# Altium footprint library IntegratedCircuites.PcbLib: 74 footprints (part 4 of 5)
Each footprint in its own frame and in the unit in brackets; x right, y up, seen from the top. Pads: shape width x height; smd on the part's side, far side on the other; paste and mask are expansions set on the pad; w line width, h text height; cw(c..) or ccw(c..) is an arc to the next point about the centre after c.
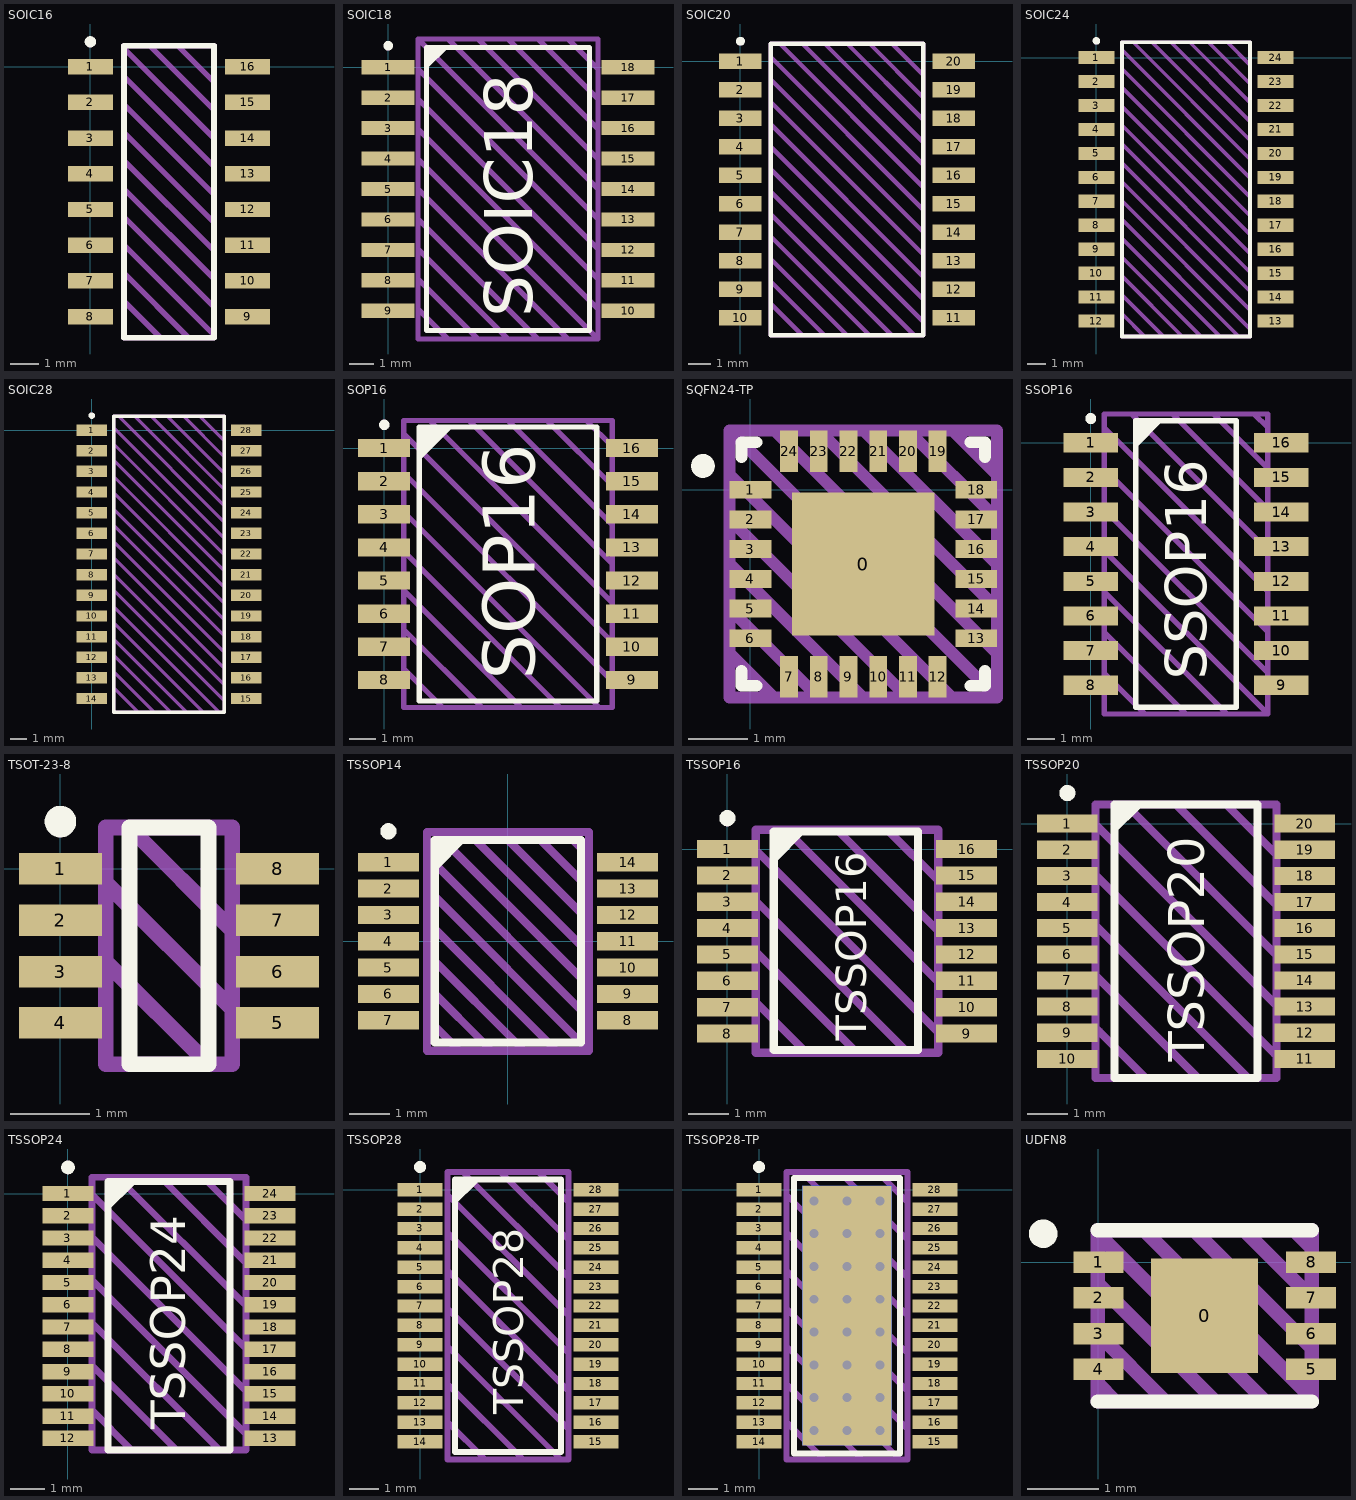
[diagram p3: the footprints below, top view; thin cyan lines are the x and y axes]

## SOIC16 [mm] "Small Outline Integrated Circuit"
pads (16):
  rect 1.6x0.55 smd: 1(0,0) 2(0,-1.27) 3(0,-2.54) 4(0,-3.81) 5(0,-5.08) 6(0,-6.35) 7(0,-7.62) 8(0,-8.89) 9(5.6,-8.89) 10(5.6,-7.62) 11(5.6,-6.35) 12(5.6,-5.08) 13(5.6,-3.81) 14(5.6,-2.54) 15(5.6,-1.27) 16(5.6,0)
Top Overlay:
  circle w0.2: c0,0.889 r0.1
  lines w0.2: 1.2,-9.645 1.2,0.755 4.4,0.755 4.4,-9.645 1.2,-9.645
Top Draw:
  lines w0.2: 1.2,-8.345 2.5,-9.645 ; 1.2,-7.345 3.5,-9.645 ; 1.2,-6.345 4.4,-9.545 ; 1.2,-5.345 4.4,-8.545 ; 1.2,-4.345 4.4,-7.545 ; 1.2,-3.345 4.4,-6.545 ; 1.2,-2.345 4.4,-5.545 ; 1.2,-1.345 4.4,-4.545 ; 1.2,-0.345 4.4,-3.545 ; 1.2,0.655 4.4,-2.545 ; 2.1,0.755 4.4,-1.545 ; 3.1,0.755 4.4,-0.545 ; 1.2,-9.645 1.2,0.755 4.4,0.755 4.4,-9.645 1.2,-9.645
Top Info:
  text "'.Comment'" at -1.449,-11.128 h1
3D body "SOIC127P600X150-16N000000000.step": height 1.5, standoff 0, extent -0.2,-9.645 5.8,0.755

## SOIC18 [mm] "Small Outline Integrated Circuit"
pads (18):
  rect 2.2x0.6 smd: 1(0,0) 2(0,-1.27) 3(0,-2.54) 4(0,-3.81) 5(0,-5.08) 6(0,-6.35) 7(0,-7.62) 8(0,-8.89) 9(0,-10.16) 10(10,-10.16) 11(10,-8.89) 12(10,-7.62) 13(10,-6.35) 14(10,-5.08) 15(10,-3.81) 16(10,-2.54) 17(10,-1.27) 18(10,0)
Top Overlay:
  circle w0.2: c0.008,0.889 r0.1
  region: 1.604,0.856 1.604,-0.094 2.554,0.856
  lines w0.2: 1.6,-10.98 8.4,-10.98 8.4,0.82 1.6,0.82 1.6,-10.98
  text "SOIC18" at 6.016,-10.414 h2
Top Draw:
  lines w0.2: 1.25,-10.08 2.5,-11.33 ; 1.25,-8.83 3.75,-11.33 ; 1.25,-7.58 5,-11.33 ; 1.25,-6.33 6.25,-11.33 ; 1.25,-5.08 7.5,-11.33 ; 1.25,-3.83 8.75,-11.33 ; 1.25,-2.58 8.75,-10.08 8.75,-8.83 1.25,-1.33 ; 1.25,-0.08 8.75,-7.58 ; 2.25,1.17 2.5,1.17 8.75,-5.08 ; 3.75,1.17 8.75,-3.83 8.75,-4.58 ; 4.75,1.17 5,1.17 8.75,-2.58 ; 6.25,1.17 8.75,-1.33 8.75,-2.33 ; 7.5,1.17 8.75,-0.08 ; 8.75,-6.58 8.75,-6.33 1.25,1.17 ; 1.25,1.17 8.75,1.17 8.75,-11.33 ; 1.25,1.17 1.25,-11.33 8.75,-11.33
Top Info:
  text "'.Comment'" at 0.047,-12.7 h1
3D body "SOIC18.step": height 2.5, standoff 0, extent -0.208,-10.98 10.208,0.82

## SOIC20 [mm] "Small Outline Integrated Circuit"
pads (20):
  rect 1.9x0.7 smd: 1(0,0) 2(0,-1.27) 3(0,-2.54) 4(0,-3.81) 5(0,-5.08) 6(0,-6.35) 7(0,-7.62) 8(0,-8.89) 9(0,-10.16) 10(0,-11.43) 11(9.5,-11.43) 12(9.5,-10.16) 13(9.5,-8.89) 14(9.5,-7.62) 15(9.5,-6.35) 16(9.5,-5.08) 17(9.5,-3.81) 18(9.5,-2.54) 19(9.5,-1.27) 20(9.5,0)
Top Overlay:
  circle w0.2: c0,0.889 r0.1
  lines w0.2: 1.35,-12.215 1.35,0.785 8.15,0.785 8.15,-12.215 1.35,-12.215
Top Draw:
  lines w0.2: 1.35,-10.815 2.75,-12.215 ; 1.35,-9.815 3.75,-12.215 ; 1.35,-8.815 4.75,-12.215 ; 1.35,-7.815 5.75,-12.215 ; 1.35,-6.815 6.75,-12.215 ; 1.35,-5.815 7.75,-12.215 ; 1.35,-4.815 8.15,-11.615 ; 1.35,-3.815 8.15,-10.615 ; 1.35,-2.815 8.15,-9.615 ; 1.35,-1.815 8.15,-8.615 ; 1.35,-0.815 8.15,-7.615 ; 1.35,0.185 8.15,-6.615 ; 1.75,0.785 8.15,-5.615 ; 2.75,0.785 8.15,-4.615 ; 3.75,0.785 8.15,-3.615 ; 4.75,0.785 8.15,-2.615 ; 5.75,0.785 8.15,-1.615 ; 6.75,0.785 8.15,-0.615 ; 1.35,-12.215 8.15,-12.215 8.15,0.785 1.35,0.785 1.35,-12.215
Top Info:
  text "'.Comment'" at 0.501,-13.698 h1
3D body "SOIC127P1030X225-20N.step": height 2.25, standoff 0, extent -0.4,-12.215 9.9,0.785

## SOIC24 [mm] "Small Outline Integrated Circuit"
pads (24):
  rect 1.9x0.7 smd: 1(0,0) 2(0,-1.27) 3(0,-2.54) 4(0,-3.81) 5(0,-5.08) 6(0,-6.35) 7(0,-7.62) 8(0,-8.89) 9(0,-10.16) 10(0,-11.43) 11(0,-12.7) 12(0,-13.97) 13(9.5,-13.97) 14(9.5,-12.7) 15(9.5,-11.43) 16(9.5,-10.16) 17(9.5,-8.89) 18(9.5,-7.62) 19(9.5,-6.35) 20(9.5,-5.08) 21(9.5,-3.81) 22(9.5,-2.54) 23(9.5,-1.27) 24(9.5,0)
Top Overlay:
  circle w0.2: c0,0.889 r0.1
  lines w0.2: 1.35,-14.785 8.15,-14.785 8.15,0.815 1.35,0.815 1.35,-14.785
Top Draw:
  lines w0.2: 1.35,-13.585 2.55,-14.785 ; 1.35,-12.585 3.55,-14.785 ; 1.35,-11.585 4.55,-14.785 ; 1.35,-10.585 5.55,-14.785 ; 1.35,-9.585 6.55,-14.785 ; 1.35,-8.585 7.55,-14.785 ; 1.35,-7.585 8.15,-14.385 ; 1.35,-6.585 8.15,-13.385 ; 1.35,-5.585 8.15,-12.385 ; 1.35,-4.585 8.15,-11.385 ; 1.35,-3.585 8.15,-10.385 ; 1.35,-2.585 8.15,-9.385 ; 1.35,-1.585 8.15,-8.385 ; 1.35,-0.585 8.15,-7.385 ; 1.35,0.415 8.15,-6.385 ; 1.95,0.815 8.15,-5.385 ; 2.95,0.815 8.15,-4.385 ; 3.95,0.815 8.15,-3.385 ; 4.95,0.815 8.15,-2.385 ; 5.95,0.815 8.15,-1.385 ; 6.95,0.815 8.15,-0.385 ; 1.35,-14.785 1.35,0.815 8.15,0.815 8.15,-14.785 1.35,-14.785
Top Info:
  text "'.Comment'" at 0.501,-16.268 h1
3D body "SOIC127P1030X225-24N.step": height 2.25, standoff 0, extent -0.4,-14.785 9.9,0.815

## SOIC28 [mm] "Small Outline Integrated Circuit"
pads (28):
  rect 1.9x0.7 smd: 1(0,0) 2(0,-1.27) 3(0,-2.54) 4(0,-3.81) 5(0,-5.08) 6(0,-6.35) 7(0,-7.62) 8(0,-8.89) 9(0,-10.16) 10(0,-11.43) 11(0,-12.7) 12(0,-13.97) 13(0,-15.24) 14(0,-16.51) 15(9.5,-16.51) 16(9.5,-15.24) 17(9.5,-13.97) 18(9.5,-12.7) 19(9.5,-11.43) 20(9.5,-10.16) 21(9.5,-8.89) 22(9.5,-7.62) 23(9.5,-6.35) 24(9.5,-5.08) 25(9.5,-3.81) 26(9.5,-2.54) 27(9.5,-1.27) 28(9.5,0)
Top Overlay:
  circle w0.2: c0,0.889 r0.1
  lines w0.2: 1.35,-17.355 8.15,-17.355 8.15,0.845 1.35,0.845 1.35,-17.355
Top Draw:
  lines w0.2: 1.35,-15.855 2.85,-17.355 ; 1.35,-14.855 3.85,-17.355 ; 1.35,-13.855 4.85,-17.355 ; 1.35,-12.855 5.85,-17.355 ; 1.35,-11.855 6.85,-17.355 ; 1.35,-10.855 7.85,-17.355 ; 1.35,-9.855 8.15,-16.655 ; 1.35,-8.855 8.15,-15.655 ; 1.35,-7.855 8.15,-14.655 ; 1.35,-6.855 8.15,-13.655 ; 1.35,-5.855 8.15,-12.655 ; 1.35,-4.855 8.15,-11.655 ; 1.35,-3.855 8.15,-10.655 ; 1.35,-2.855 8.15,-9.655 ; 1.35,-1.855 8.15,-8.655 ; 1.35,-0.855 8.15,-7.655 ; 1.35,0.145 8.15,-6.655 ; 1.65,0.845 8.15,-5.655 ; 2.65,0.845 8.15,-4.655 ; 3.65,0.845 8.15,-3.655 ; 4.65,0.845 8.15,-2.655 ; 5.65,0.845 8.15,-1.655 ; 6.65,0.845 8.15,-0.655 ; 1.35,-17.355 8.15,-17.355 8.15,0.845 1.35,0.845 1.35,-17.355
Top Info:
  text "'.Comment'" at 0.501,-18.838 h1
3D body "SOIC127P1030X225-28N.step": height 2.25, standoff 0, extent -0.4,-17.355 9.9,0.845

## SOP16 [mm]
height 2.5
pads (16):
  rect 2x0.7 smd: 1(0,0) 2(0,-1.27) 3(0,-2.54) 4(0,-3.81) 5(0,-5.08) 6(0,-6.35) 7(0,-7.62) 8(0,-8.89) 9(9.5,-8.89) 10(9.5,-7.62) 11(9.5,-6.35) 12(9.5,-5.08) 13(9.5,-3.81) 14(9.5,-2.54) 15(9.5,-1.27) 16(9.5,0)
Top Overlay:
  circle w0.2: c0.008,0.889 r0.1
  region: 1.35,0.805 2.634,0.805 1.35,-0.479
  lines w0.2: 1.35,-9.695 8.15,-9.695 8.15,0.805 1.35,0.805 1.35,-9.695
  text "SOP16" at 5.766,-8.89 h2
Top Draw:
  lines w0.2: 0.75,-8.445 2.25,-9.945 2.75,-9.945 ; 0.75,-6.945 3.75,-9.945 4.75,-9.945 ; 0.75,-5.445 5.25,-9.945 6.75,-9.945 ; 0.75,-3.945 6.75,-9.945 ; 0.75,-2.445 8.25,-9.945 8.75,-9.945 ; 0.75,-0.945 8.75,-8.945 ; 0.75,0.555 8.75,-7.445 8.75,-7.945 ; 1.75,1.055 8.75,-5.945 8.75,-6.945 ; 2.25,1.055 3.25,1.055 8.75,-4.445 ; 4.75,1.055 8.75,-2.945 ; 6.25,1.055 8.75,-1.445 8.75,-2.445 ; 7.25,-9.945 6.75,-9.945 ; 7.75,1.055 8.75,0.055 8.75,-0.445 ; 8.75,-9.945 0.75,-9.945 0.75,1.055 8.75,1.055 8.75,-9.945 ; 8.75,-8.945 8.75,-8.945
Top Info:
  text "'.Comment'" at -0.584,-11.557 h1.25
3D body "SOP16.step": height 2.5, standoff 0, extent -0.425,-9.695 9.925,0.805

## SQFN24-TP [mm]
height 1
pads (25):
  rect 2.4x2.4 smd: 0(1.9,-1.25)
  rect 0.7x0.3 smd: 1(0,0) 2(0,-0.5) 3(0,-1) 4(0,-1.5) 5(0,-2) 6(0,-2.5) 13(3.8,-2.5) 14(3.8,-2) 15(3.8,-1.5) 16(3.8,-1) 17(3.8,-0.5) 18(3.8,0)
  rect 0.3x0.7 smd: 7(0.65,-3.15) 8(1.15,-3.15) 9(1.65,-3.15) 10(2.15,-3.15) 11(2.65,-3.15) 12(3.15,-3.15) 19(3.15,0.65) 20(2.65,0.65) 21(2.15,0.65) 22(1.65,0.65) 23(1.15,0.65) 24(0.65,0.65)
Top Overlay:
  circle w0.2: c-0.8,0.4 r0.1
  lines w0.2: -0.15,-3.05 -0.15,-3.3 0.1,-3.3 ; -0.15,0.55 -0.15,0.8 0.1,0.8 ; 3.7,-3.3 3.95,-3.3 3.95,-3.05 ; 3.7,0.8 3.95,0.8 3.95,0.55
Top Draw:
  lines w0.2: -0.35,-2.75 0.4,-3.5 ; -0.35,-2 1.15,-3.5 ; -0.35,-1.25 1.9,-3.5 ; -0.35,-0.5 2.65,-3.5 ; -0.35,0.25 3.4,-3.5 ; 0.4,1 4.15,-2.75 ; 1.15,1 4.15,-2 ; 1.9,1 4.15,-1.25 ; 2.65,1 4.15,-0.5 ; 3.4,1 4.15,0.25 ; -0.35,1 4.15,1 4.15,-3.5 ; -0.35,1 -0.35,-3.5 4.15,-3.5 ; -0.35,1 4.15,-3.5
Top Info:
  text "'.Comment'" at -1.286,-4.687 h0.75
3D body "PQFN127P600-8N.step": height 1, standoff 0, extent -0.15,-3.3 3.95,0.8

## SSOP16 [mm]
height 2
pads (16):
  rect 2x0.7 smd: 1(0,0) 2(0,-1.27) 3(0,-2.54) 4(0,-3.81) 5(0,-5.08) 6(0,-6.35) 7(0,-7.62) 8(0,-8.89) 9(7,-8.89) 10(7,-7.62) 11(7,-6.35) 12(7,-5.08) 13(7,-3.81) 14(7,-2.54) 15(7,-1.27) 16(7,0)
Top Overlay:
  circle w0.2: c0.008,0.889 r0.1
  region: 1.65,0.805 1.65,-0.199 2.654,0.805
  lines w0.2: 1.65,-9.695 1.65,0.805 5.35,0.805 5.35,-9.695 1.65,-9.695
  text "SSOP16" at 4.25,-8.695 h1.5
Top Draw:
  lines w0.2: 0.5,-8.445 2,-9.945 2.5,-9.945 ; 0.5,-6.945 3.5,-9.945 4.5,-9.945 ; 0.5,-5.445 5,-9.945 6.5,-9.945 ; 0.5,-3.945 6.5,-9.945 ; 0.5,-2.445 6.5,-8.445 6.5,-9.945 ; 0.5,-0.945 6.5,-6.945 ; 0.5,0.555 6.5,-5.445 ; 1.5,1.055 6.5,-3.945 ; 2,1.055 3,1.055 6.5,-2.445 ; 4.5,1.055 6.5,-0.945 ; 6,1.055 6.5,0.555 ; 6.5,-9.945 0.5,-9.945 0.5,1.055 6.5,1.055 6.5,-9.945 ; 6.5,-6.945 6.5,-6.945
Top Info:
  text "'.Comment'" at -1.276,-11.378 h1
3D body "SSOP16.step": height 2, standoff 0, extent -0.05,-9.695 7.05,0.805

## TSOT-23-8 [mm]
height 1.1
pads (8):
  rect 1.05x0.4 smd: 1(0,0) 2(0,-0.65) 3(0,-1.3) 4(0,-1.95) 5(2.75,-1.95) 6(2.75,-1.3) 7(2.75,-0.65) 8(2.75,0)
Top Overlay:
  circle w0.2: c0,0.6 r0.1
  lines w0.2: 0.875,-2.475 1.875,-2.475 1.875,0.525 0.875,0.525 0.875,-2.475
Top Draw:
  lines w0.2: 0.575,-1.175 1.875,-2.475 ; 0.575,-0.175 2.175,-1.775 ; 0.875,0.525 2.175,-0.775 ; 0.575,-2.475 2.175,-2.475 2.175,0.525 0.575,0.525 0.575,-2.475
Top Info:
  text "'.Comment'" at -1.041,-3.267 h0.5
3D body "TSOP65P280X110-8N.step": height 1.1, standoff 0, extent -0.037,-2.475 2.788,0.525

## TSSOP14 [mm]
height 1.2
pads (14):
  rect 1.5x0.45 smd: 1(-2.95,1.95) 2(-2.95,1.3) 3(-2.95,0.65) 4(-2.95,0) 5(-2.95,-0.65) 6(-2.95,-1.3) 7(-2.95,-1.95) 8(2.95,-1.95) 9(2.95,-1.3) 10(2.95,-0.65) 11(2.95,0) 12(2.95,0.65) 13(2.95,1.3) 14(2.95,1.95)
Top Overlay:
  circle w0.2: c-2.95,2.712 r0.1
  region: -1.807,2.5 -1.807,1.706 -1.013,2.5
  lines w0.2: -1.807,-2.5 1.8,-2.5 1.8,2.5 -1.807,2.5 -1.807,-2.5
Top Draw:
  lines w0.2: -2,-1.9 -1.2,-2.7 ; -2,-1.1 -0.4,-2.7 ; -2,-0.3 0.4,-2.7 ; -2,0.5 1.2,-2.7 ; -2,1.3 2,-2.7 ; -2,2.1 2,-1.9 ; -1.8,2.7 2,-1.1 ; -1,2.7 2,-0.3 ; -0.2,2.7 2,0.5 ; 0.6,2.7 2,1.3 ; 1.4,2.7 2,2.1 ; 2,-2.7 2,2.7 -2,2.7 -2,-2.7 2,-2.7
Top Info:
  text "'.Comment'" at -3.204,-3.638 h0.75
3D body "TSOP65P640X120-14N.step": height 1.2, standoff 0, extent -3.2,-2.7 3.2,2.7

## TSSOP16 [mm]
height 1.2
pads (16):
  rect 1.5x0.45 smd: 1(0,0) 2(0,-0.65) 3(0,-1.3) 4(0,-1.95) 5(0,-2.6) 6(0,-3.25) 7(0,-3.9) 8(0,-4.55) 9(5.9,-4.55) 10(5.9,-3.9) 11(5.9,-3.25) 12(5.9,-2.6) 13(5.9,-1.95) 14(5.9,-1.3) 15(5.9,-0.65) 16(5.9,0)
Top Overlay:
  circle w0.2: c0,0.762 r0.1
  region: 1.15,0.435 1.15,-0.359 1.944,0.435
  lines w0.2: 1.143,-4.953 1.143,0.435 4.699,0.435 4.699,-4.953 1.143,-4.953
  text "TSSOP16" at 3.423,-4.723 h0.75
Top Draw:
  lines w0.2: 0.7,-3.775 1.95,-5.025 ; 0.7,-2.525 3.2,-5.025 3.45,-5.025 ; 0.7,-1.275 4.45,-5.025 ; 0.7,-0.025 5.2,-4.525 ; 1.45,0.475 5.2,-3.275 5.2,-4.525 ; 2.7,0.475 5.2,-2.025 5.2,-3.525 ; 3.991,0.435 5.2,-0.775 5.2,-1.275 ; 5.2,-5.025 5.2,-4.525 ; 5.2,-5.025 5.2,0.475 0.7,0.475 0.7,-5.025 5.2,-5.025
Top Info:
  text "'.Comment'" at -0.254,-6.096 h0.75
3D body "TSSOP16.step": height 1.2, standoff 0, extent -0.3,-4.825 6.2,0.275

## TSSOP20 [mm]
height 1.3
pads (20):
  rect 1.5x0.45 smd: 1(0,0) 2(0,-0.65) 3(0,-1.3) 4(0,-1.95) 5(0,-2.6) 6(0,-3.25) 7(0,-3.9) 8(0,-4.55) 9(0,-5.2) 10(0,-5.85) 11(5.9,-5.85) 12(5.9,-5.2) 13(5.9,-4.55) 14(5.9,-3.9) 15(5.9,-3.25) 16(5.9,-2.6) 17(5.9,-1.95) 18(5.9,-1.3) 19(5.9,-0.65) 20(5.9,0)
Top Overlay:
  circle w0.2: c0,0.762 r0.1
  region: 1.1,0.475 1.1,-0.319 1.894,0.475
  lines w0.2: 1.172,-6.325 1.172,0.475 4.728,0.475 4.728,-6.325 1.172,-6.325
  text "TSSOP20" at 3.4,-5.924 h0.9
Top Draw:
  lines w0.2: 0.7,-4.925 0.7,-5.075 0.8,-5.175 1.95,-6.325 ; 0.7,-3.775 3.25,-6.325 3.45,-6.325 ; 0.7,-2.525 4.475,-6.3 ; 0.7,-1.275 5.15,-5.725 ; 0.7,-0.025 5.2,-4.525 ; 1.45,0.475 5.2,-3.275 5.2,-4.525 ; 2.7,0.475 5.2,-2.025 5.2,-3.525 ; 3.95,0.475 5.2,-0.775 5.2,-1.275 ; 5.2,-5.025 5.2,0.475 0.7,0.475 0.7,-6.325 5.2,-6.325 5.2,-4.525
Top Info:
  text "'.Comment'" at -0.186,-7.537 h0.75
3D body "TSOP65P640X120-16N.step": height 1.2, standoff 0, extent -0.275,-4.775 6.125,0.225
3D body "TSOP65P640X120-16N.step": height 1.2, standoff 0, extent -0.275,-6.075 6.125,-1.075

## TSSOP24 [mm]
height 1.2
pads (24):
  rect 1.5x0.45 smd: 1(0,0) 2(0,-0.65) 3(0,-1.3) 4(0,-1.95) 5(0,-2.6) 6(0,-3.25) 7(0,-3.9) 8(0,-4.55) 9(0,-5.2) 10(0,-5.85) 11(0,-6.5) 12(0,-7.15) 13(5.9,-7.15) 14(5.9,-6.5) 15(5.9,-5.85) 16(5.9,-5.2) 17(5.9,-4.55) 18(5.9,-3.9) 19(5.9,-3.25) 20(5.9,-2.6) 21(5.9,-1.95) 22(5.9,-1.3) 23(5.9,-0.65) 24(5.9,0)
Top Overlay:
  circle w0.2: c0,0.762 r0.1
  region: 1.15,0.275 1.15,-0.519 1.944,0.275
  lines w0.2: 1.172,-7.493 1.172,0.347 4.728,0.347 4.728,-7.493 1.172,-7.493
  text "TSSOP24" at 3.421,-6.888 h1
Top Draw:
  lines w0.2: 0.7,-6.325 1.861,-7.486 ; 0.7,-5.075 0.7,-4.925 ; 0.7,-5.025 3.168,-7.493 3.302,-7.493 ; 0.7,-3.775 4.419,-7.494 ; 0.7,-2.525 5.15,-6.975 ; 0.7,-1.275 5.15,-5.725 ; 0.7,-0.025 5.2,-4.525 ; 1.45,0.475 5.2,-3.275 5.2,-4.525 ; 2.7,0.475 5.2,-2.025 5.2,-3.525 ; 3.95,0.475 5.2,-0.775 5.2,-1.275 ; 5.2,-5.025 5.2,0.475 0.7,0.475 0.7,-7.493 5.2,-7.493 5.2,-4.525
Top Info:
  text "'.Comment'" at -0.186,-8.637 h0.75
3D body "TSOP65P640X120-24N.step": height 1.2, standoff 0, extent -0.25,-7.525 6.15,0.375

## TSSOP28 [mm]
height 1.2
pads (28):
  rect 1.5x0.45 smd: 1(0,0) 2(0,-0.65) 3(0,-1.3) 4(0,-1.95) 5(0,-2.6) 6(0,-3.25) 7(0,-3.9) 8(0,-4.55) 9(0,-5.2) 10(0,-5.85) 11(0,-6.5) 12(0,-7.15) 13(0,-7.8) 14(0,-8.45) 15(5.9,-8.45) 16(5.9,-7.8) 17(5.9,-7.15) 18(5.9,-6.5) 19(5.9,-5.85) 20(5.9,-5.2) 21(5.9,-4.55) 22(5.9,-3.9) 23(5.9,-3.25) 24(5.9,-2.6) 25(5.9,-1.95) 26(5.9,-1.3) 27(5.9,-0.65) 28(5.9,0)
Top Overlay:
  circle w0.2: c0,0.762 r0.1
  region: 1.15,0.275 1.15,-0.519 1.944,0.275
  lines w0.2: 1.172,-8.797 1.172,0.347 4.728,0.347 4.728,-8.797 1.172,-8.797
  text "TSSOP28" at 3.458,-7.527 h1
Top Draw:
  lines w0.2: 0.918,-7.781 2.188,-9.051 ; 0.918,-6.511 3.458,-9.051 ; 0.918,-5.241 4.728,-9.051 ; 0.918,-3.971 4.982,-8.035 ; 0.918,-2.701 4.982,-6.765 ; 0.918,-1.431 4.982,-5.495 ; 0.918,-0.161 4.982,-4.225 ; 1.426,0.601 4.982,-2.955 ; 2.696,0.601 4.982,-1.685 ; 3.966,0.601 4.982,-0.415 ; 0.918,-9.051 0.918,0.347 0.918,0.601 1.172,0.601 4.982,0.601 4.982,-9.051 0.918,-9.051
Top Info:
  text "'.Comment'" at -0.186,-10.237 h0.75
3D body "TSSOP28.step": height 1.2, standoff 0, extent -0.25,-9.125 6.15,0.675

## TSSOP28-TP [mm]
height 1.2
pads (30):
  rect 1.5x0.45 smd: 1(0,0) 2(0,-0.65) 3(0,-1.3) 4(0,-1.95) 5(0,-2.6) 6(0,-3.25) 7(0,-3.9) 8(0,-4.55) 9(0,-5.2) 10(0,-5.85) 11(0,-6.5) 12(0,-7.15) 13(0,-7.8) 14(0,-8.45) 15(5.9,-8.45) 16(5.9,-7.8) 17(5.9,-7.15) 18(5.9,-6.5) 19(5.9,-5.85) 20(5.9,-5.2) 21(5.9,-4.55) 22(5.9,-3.9) 23(5.9,-3.25) 24(5.9,-2.6) 25(5.9,-1.95) 26(5.9,-1.3) 27(5.9,-0.65) 28(5.9,0)
  rect 3x8.7 smd: ""(2.95,-4.225)
  rect 3x8.7 smd far side: ""(2.95,-4.225)
via 2.95,-6.975 diameter 0.5 hole 0.3
via 2.95,-5.875 diameter 0.5 hole 0.3
via 2.95,-4.775 diameter 0.5 hole 0.3
via 2.95,-3.675 diameter 0.5 hole 0.3
via 2.95,-8.075 diameter 0.5 hole 0.3
via 1.85,-8.075 diameter 0.5 hole 0.3
via 1.85,-6.975 diameter 0.5 hole 0.3
via 1.85,-4.775 diameter 0.5 hole 0.3
via 1.85,-3.675 diameter 0.5 hole 0.3
via 1.85,-2.575 diameter 0.5 hole 0.3
via 1.85,-1.475 diameter 0.5 hole 0.3
via 1.85,-5.875 diameter 0.5 hole 0.3
via 4.05,-8.075 diameter 0.5 hole 0.3
via 4.05,-6.975 diameter 0.5 hole 0.3
via 4.05,-5.875 diameter 0.5 hole 0.3
via 4.05,-4.775 diameter 0.5 hole 0.3
via 4.05,-3.675 diameter 0.5 hole 0.3
via 4.05,-2.575 diameter 0.5 hole 0.3
via 2.95,-2.575 diameter 0.5 hole 0.3
via 4.05,-1.475 diameter 0.5 hole 0.3
via 2.95,-1.475 diameter 0.5 hole 0.3
via 4.05,-0.375 diameter 0.5 hole 0.3
via 2.95,-0.375 diameter 0.5 hole 0.3
via 1.85,-0.375 diameter 0.5 hole 0.3
Top Overlay:
  circle w0.2: c0,0.762 r0.1
  lines w0.2: 1.172,-8.85 4.728,-8.85 4.728,0.398 1.172,0.398 1.172,-8.85
Top Draw:
  lines w0.2: 0.918,-7.781 2.188,-9.051 ; 0.918,-6.511 3.458,-9.051 ; 0.918,-5.241 4.728,-9.051 ; 0.918,-3.971 4.982,-8.035 ; 0.918,-2.701 4.982,-6.765 ; 0.918,-1.431 4.982,-5.495 ; 0.918,-0.161 4.982,-4.225 ; 1.426,0.601 4.982,-2.955 ; 2.696,0.601 4.982,-1.685 ; 3.966,0.601 4.982,-0.415 ; 0.918,-9.051 0.918,0.347 0.918,0.601 1.172,0.601 4.982,0.601 4.982,-9.051 0.918,-9.051
Top Info:
  text "'.Comment'" at -0.186,-10.237 h0.75
3D body "TSSOP-28.step": height 1.2, standoff 0, extent -0.25,-9.125 6.15,0.675

## UDFN8 [mm]
pads (9):
  rect 1.5x1.6 smd: 0(1.49,-0.75)
  rect 0.7x0.3 smd: 1(0,0) 2(0,-0.5) 3(0,-1) 4(0,-1.5) 5(2.98,-1.5) 6(2.98,-1) 7(2.98,-0.5) 8(2.98,0)
Top Overlay:
  circle w0.2: c-0.775,0.4 r0.1
  lines w0.2: -0.01,-1.95 2.99,-1.95 ; -0.01,0.45 2.99,0.45
Top Draw:
  lines w0.2: -0.01,-1.7 0.24,-1.95 ; -0.01,-1 0.94,-1.95 ; -0.01,-0.3 1.64,-1.95 ; -0.01,0.4 2.34,-1.95 ; 0.64,0.45 2.99,-1.9 ; 1.34,0.45 2.99,-1.2 ; 2.04,0.45 2.99,-0.5 ; 2.74,0.45 2.99,0.2 ; -0.01,-1.95 -0.01,0.45 2.99,0.45 2.99,-1.95 -0.01,-1.95
Top Info:
  text "'.Comment'" at -0.634,-2.742 h0.5
3D body "SON50P300X135_HS-9N.step": height 1.35, standoff 0, extent -0.11,-1.75 3.09,0.25